# Altium integrated library 电源插座.IntLib: 2 symbols
Pins are listed as number, name and electrical type; pins without a type are passive.

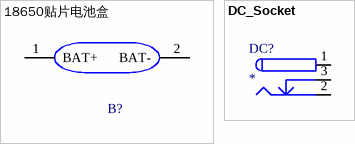
[diagram p0: symbols 18650贴片电池盒 to DC_Socket]

## 18650贴片电池盒
designator B?  (value not drawn)
Symbol: 18650_SMD; Device: 18650贴片电池盒; Convert to PCB: yes; Add into BOM: yes
footprint 18650_SMD
pins: 1 BAT+, 2 BAT-

## DC_Socket
designator DC?
footprint DC-002 (3.5X1.1mm)
footprint DC-003 (3.5X1.1mm)
footprint DC-003A (3.5X1.1mm)
footprint DC-005 (5.5X2.1mm)
footprint DC-012 (5.5X2.1mm)
footprint DC-031A (3.5X1.3mm)
footprint DC-050 (5.5X2.1mm)
pins: 1 (power), 2 (power), 3 (power)